# EAGLE library part OPAMP-DUAL (library ryans-common-components)
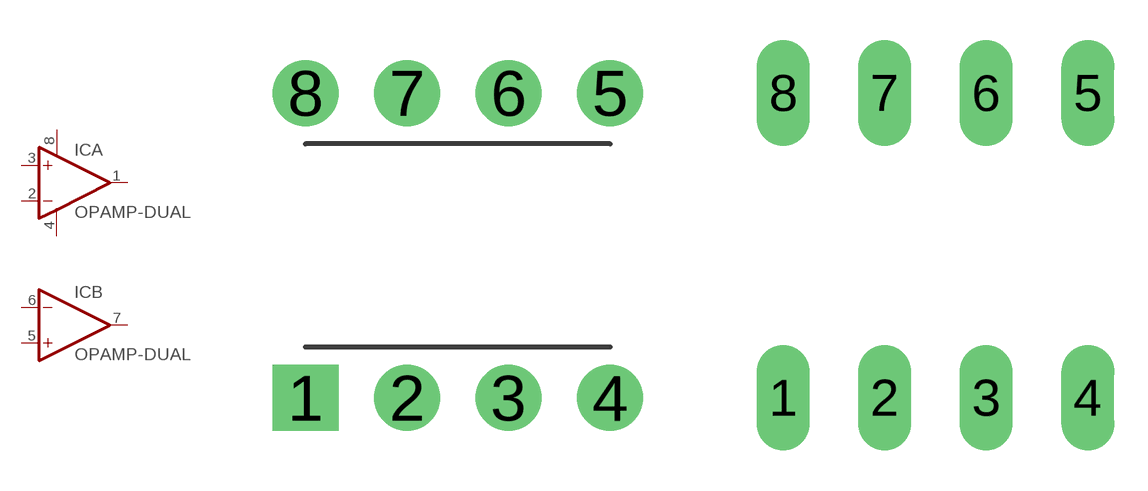
[diagram p1: symbol with the pads of DIP8; footprints DIP8, DIL08-SOCKET]

Designator prefix IC; gates A=OPAMP-MULT-A B=OPAMP-MULT-X

## OPAMP-DUAL-DIP8  [DIP8]
1  A:OUT
2  A:IN-
3  A:IN+
4  A:V-
5  B:IN+
6  B:IN-
7  B:OUT
8  A:V+

## OPAMP-DUAL-DIP8-SOCKET  [DIL08-SOCKET]
Pads as for DIP8

## Footprint DIP8 (pad centres in mm)
drill 0.8 pad 1.651 square: 1 -3.81,-3.81
drill 0.8 pad 1.651: 2 -1.27,-3.81; 3 1.27,-3.81; 4 3.81,-3.81; 5 3.81,3.81
drill 0.813 pad 1.651: 6 1.27,3.81; 7 -1.27,3.81; 8 -3.81,3.81

## Footprint DIL08-SOCKET (pad centres in mm)
drill 0.813 long: 1 -3.81,-3.81; 2 -1.27,-3.81; 3 1.27,-3.81; 4 3.81,-3.81; 5 3.81,3.81; 6 1.27,3.81; 7 -1.27,3.81; 8 -3.81,3.81